# EAGLE library part 3POLE_CONTACTOR (library CASARIAE)
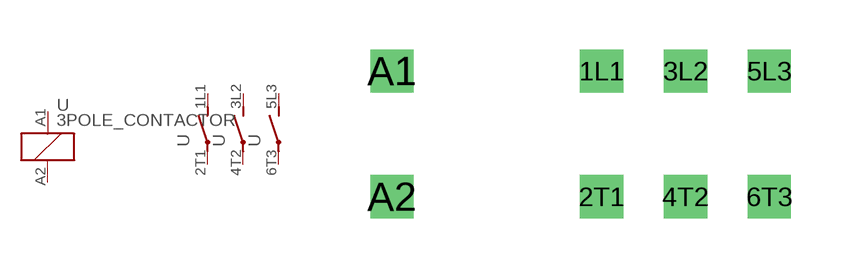
[diagram p1: symbol with the pads of 3NO-CON; footprint 3NO-CON]

Designator prefix -; gates G$1=K G$2=S G$3=S G$4=S

## 3POLE_CONTACTOR  [3NO-CON]
1L1  G$2:S  pas
2T1  G$2:P  pas
3L2  G$3:S  pas
4T2  G$3:P  pas
5L3  G$4:S  pas
6T3  G$4:P  pas
A1  G$1:+  pas
A2  G$1:-  pas

## Footprint 3NO-CON (pad centres in mm)
drill 0.8 square: 1L1 -2.54,3.81; 2T1 -2.54,0; 3L2 0,3.81; 4T2 0,0; 5L3 2.54,3.81; 6T3 2.54,0; A1 -8.89,3.81; A2 -8.89,0